# Altium footprint library 电感.PcbLib: 63 footprints (part 2 of 4)
Each footprint in its own frame and in the unit in brackets; x right, y up, seen from the top. Pads: shape width x height; smd on the part's side, far side on the other; paste and mask are expansions set on the pad; w line width, h text height; cw(c..) or ccw(c..) is an arc to the next point about the centre after c.
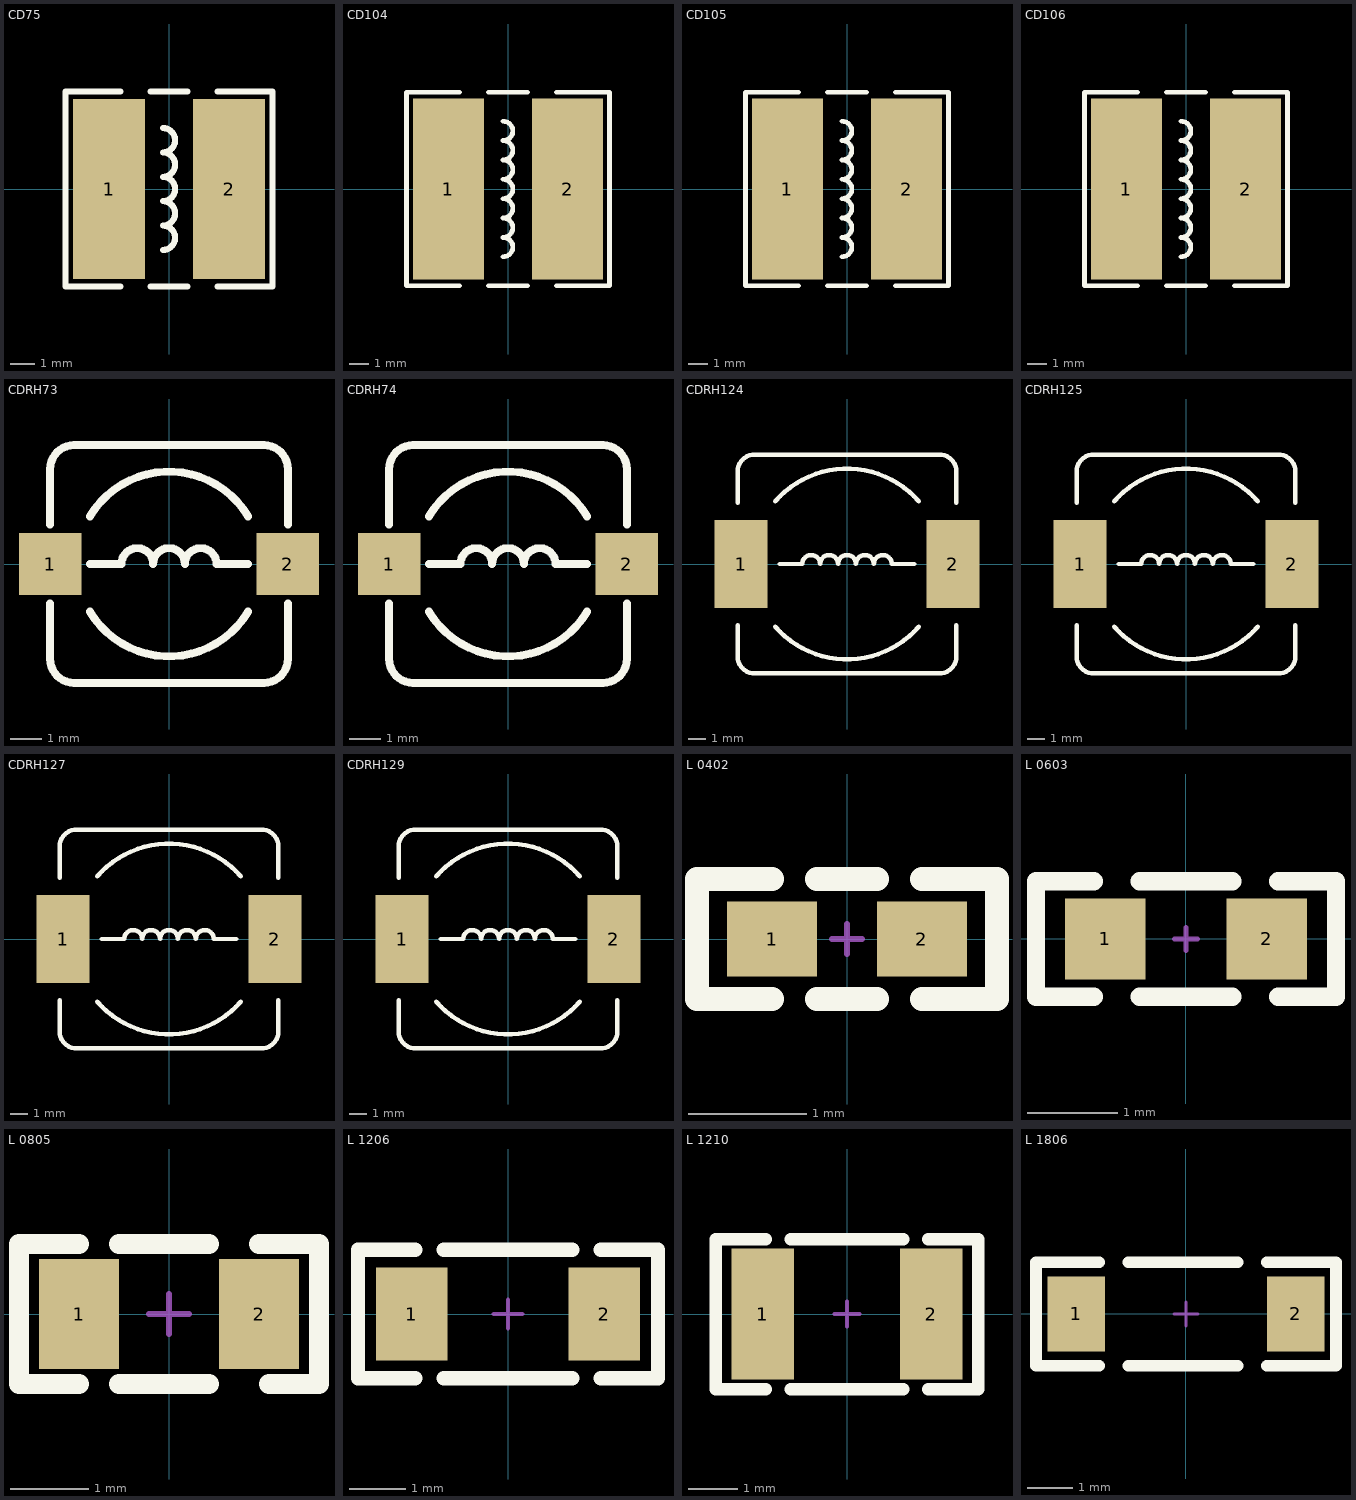
[diagram p1: the footprints below, top view; thin cyan lines are the x and y axes]

## CD75 [mm] "7.8*7*5mm（长宽高）"
pads (2):
  rect 3x7.5 smd: 1(-2.5,0) 2(2.5,0)
Top Overlay:
  lines w0.254: -2.032,-4.064 -4.318,-4.064 -4.318,4.064 -2.032,4.064 ; -0.762,-4.064 0.762,-4.064 ; -0.762,4.064 0.762,4.064 ; -0.254,-2.54 ccw(c-0.254,-2.032) -0.254,-1.524 ccw(c-0.254,-1.016) -0.254,-0.508 ccw(c-0.254,0) -0.254,0.508 ccw(c-0.254,1.016) -0.254,1.524 ccw(c-0.254,2.032) -0.254,2.54 ; 2.032,-4.064 4.318,-4.064 4.318,4.064 2.032,4.064
3D body "CD75.STEP": height 5.15, standoff 0, extent -3.849,-3.5 3.849,3.5

## CD104 [mm] "10*9*4mm（长宽高）"
pads (2):
  rect 3.75x9.5 smd: 1(-3.125,0) 2(3.125,0)
Top Overlay:
  lines w0.254: -2.54,-5.08 -5.334,-5.08 -5.334,5.08 -2.54,5.08 ; -1.016,-5.08 1.016,-5.08 ; -1.016,5.08 1.016,5.08 ; -0.254,-3.556 ccw(c-0.254,-3.048) -0.254,-2.54 ccw(c-0.254,-2.032) -0.254,-1.524 ccw(c-0.254,-1.016) -0.254,-0.508 ccw(c-0.254,0) -0.254,0.508 ccw(c-0.254,1.016) -0.254,1.524 ccw(c-0.254,2.032) -0.254,2.54 ccw(c-0.254,3.048) -0.254,3.556 ; 2.54,-5.08 5.334,-5.08 5.334,5.08 2.54,5.08
3D body "CD104.STEP": height 4.7, standoff 0, extent -4.954,-4.5 4.954,4.5

## CD105 [mm] "10*9*5.4mm（长宽高）"
pads (2):
  rect 3.75x9.5 smd: 1(-3.125,0) 2(3.125,0)
Top Overlay:
  lines w0.254: -2.54,-5.08 -5.334,-5.08 -5.334,5.08 -2.54,5.08 ; -1.016,-5.08 1.016,-5.08 ; -1.016,5.08 1.016,5.08 ; -0.254,-3.556 ccw(c-0.254,-3.048) -0.254,-2.54 ccw(c-0.254,-2.032) -0.254,-1.524 ccw(c-0.254,-1.016) -0.254,-0.508 ccw(c-0.254,0) -0.254,0.508 ccw(c-0.254,1.016) -0.254,1.524 ccw(c-0.254,2.032) -0.254,2.54 ccw(c-0.254,3.048) -0.254,3.556 ; 2.54,-5.08 5.334,-5.08 5.334,5.08 2.54,5.08
3D body "CD105.STEP": height 5.5, standoff 0, extent -4.954,-4.5 4.954,4.5

## CD106 [mm] "10*9*6.5mm（长宽高）"
pads (2):
  rect 3.75x9.5 smd: 1(-3.125,0) 2(3.125,0)
Top Overlay:
  lines w0.254: -2.54,-5.08 -5.334,-5.08 -5.334,5.08 -2.54,5.08 ; -1.016,-5.08 1.016,-5.08 ; -1.016,5.08 1.016,5.08 ; -0.254,-3.556 ccw(c-0.254,-3.048) -0.254,-2.54 ccw(c-0.254,-2.032) -0.254,-1.524 ccw(c-0.254,-1.016) -0.254,-0.508 ccw(c-0.254,0) -0.254,0.508 ccw(c-0.254,1.016) -0.254,1.524 ccw(c-0.254,2.032) -0.254,2.54 ccw(c-0.254,3.048) -0.254,3.556 ; 2.54,-5.08 5.334,-5.08 5.334,5.08 2.54,5.08
3D body "CD106.STEP": height 6.3, standoff 0, extent -4.954,-4.5 4.954,4.5

## CDRH73 [mm] "7.3*7.3*3.4mm（长宽高）"
pads (2):
  rect 2x2 smd: 1(-3.81,0) 2(3.81,0)
Top Overlay:
  lines w0.254: -3.81,-1.27 -3.81,-3.048 ccw(c-3.048,-3.048) -3.048,-3.81 3.048,-3.81 ccw(c3.048,-3.048) 3.81,-3.048 3.81,-1.27 ; -3.81,1.27 -3.81,3.048 cw(c-3.048,3.048) -3.048,3.81 3.048,3.81 cw(c3.048,3.048) 3.81,3.048 3.81,1.27 ; -2.54,-1.524 ccw(c0,0) 2.54,-1.524 ; -2.54,0 -1.524,0 cw(c-1.016,0) -0.508,0 cw(c0,0) 0.508,0 cw(c1.016,0) 1.524,0 2.54,0 ; -2.54,1.524 cw(c0,0) 2.54,1.524
3D body "CDRH73.STEP": height 3.65, standoff 0, extent -3.65,-3.65 3.65,3.65

## CDRH74 [mm] "7.3*7.3*4.5mm（长宽高）"
pads (2):
  rect 2x2 smd: 1(-3.81,0) 2(3.81,0)
Top Overlay:
  lines w0.254: -3.81,-1.27 -3.81,-3.048 ccw(c-3.048,-3.048) -3.048,-3.81 3.048,-3.81 ccw(c3.048,-3.048) 3.81,-3.048 3.81,-1.27 ; -3.81,1.27 -3.81,3.048 cw(c-3.048,3.048) -3.048,3.81 3.048,3.81 cw(c3.048,3.048) 3.81,3.048 3.81,1.27 ; -2.54,-1.524 ccw(c0,0) 2.54,-1.524 ; -2.54,0 -1.524,0 cw(c-1.016,0) -0.508,0 cw(c0,0) 0.508,0 cw(c1.016,0) 1.524,0 2.54,0 ; -2.54,1.524 cw(c0,0) 2.54,1.524
3D body "CDRH74.STEP": height 4.5, standoff 0, extent -3.65,-3.65 3.65,3.65

## CDRH124 [mm] "12*12*4.5mm（长宽高）"
pads (2):
  rect 3x5 smd: 1(-6,0) 2(6,0)
Top Overlay:
  lines w0.254: -6.2,-3.475 -6.2,-5.23 ccw(c-5.23,-5.23) -5.23,-6.2 5.23,-6.2 ccw(c5.23,-5.23) 6.2,-5.23 6.2,-3.475 ; -6.2,3.475 -6.2,5.23 cw(c-5.23,5.23) -5.23,6.2 5.23,6.2 cw(c5.23,5.23) 6.2,5.23 6.2,3.475 ; -4.064,-3.556 ccw(c0,0) 4.064,-3.556 ; -4.064,3.556 cw(c0,0) 4.064,3.556 ; -3.81,0 -2.54,0 cw(c-2.032,0) -1.524,0 cw(c-1.016,0) -0.508,0 cw(c0,0) 0.508,0 cw(c1.016,0) 1.524,0 cw(c2.032,0) 2.54,0 3.81,0
3D body "CDRH124.STEP": height 4.55, standoff 0.05, extent -6,-6 6,6

## CDRH125 [mm] "12*12*5mm（长宽高）"
pads (2):
  rect 3x5 smd: 1(-6,0) 2(6,0)
Top Overlay:
  lines w0.254: -6.2,-3.475 -6.2,-5.23 ccw(c-5.23,-5.23) -5.23,-6.2 5.23,-6.2 ccw(c5.23,-5.23) 6.2,-5.23 6.2,-3.475 ; -6.2,3.475 -6.2,5.23 cw(c-5.23,5.23) -5.23,6.2 5.23,6.2 cw(c5.23,5.23) 6.2,5.23 6.2,3.475 ; -4.064,-3.556 ccw(c0,0) 4.064,-3.556 ; -4.064,3.556 cw(c0,0) 4.064,3.556 ; -3.81,0 -2.54,0 cw(c-2.032,0) -1.524,0 cw(c-1.016,0) -0.508,0 cw(c0,0) 0.508,0 cw(c1.016,0) 1.524,0 cw(c2.032,0) 2.54,0 3.81,0
3D body "CDRH125.STEP": height 5.05, standoff 0.05, extent -6,-6 6,6

## CDRH127 [mm] "12*12*8mm（长宽高）"
pads (2):
  rect 3x5 smd: 1(-6,0) 2(6,0)
Top Overlay:
  lines w0.254: -6.2,-3.475 -6.2,-5.23 ccw(c-5.23,-5.23) -5.23,-6.2 5.23,-6.2 ccw(c5.23,-5.23) 6.2,-5.23 6.2,-3.475 ; -6.2,3.475 -6.2,5.23 cw(c-5.23,5.23) -5.23,6.2 5.23,6.2 cw(c5.23,5.23) 6.2,5.23 6.2,3.475 ; -4.064,-3.556 ccw(c0,0) 4.064,-3.556 ; -4.064,3.556 cw(c0,0) 4.064,3.556 ; -3.81,0 -2.54,0 cw(c-2.032,0) -1.524,0 cw(c-1.016,0) -0.508,0 cw(c0,0) 0.508,0 cw(c1.016,0) 1.524,0 cw(c2.032,0) 2.54,0 3.81,0
3D body "CDRH127.STEP": height 7.8, standoff 0, extent -6,-6 6,6

## CDRH129 [mm] "12*12*9.5mm（长宽高）"
pads (2):
  rect 3x5 smd: 1(-6,0) 2(6,0)
Top Overlay:
  lines w0.254: -6.2,-3.475 -6.2,-5.23 ccw(c-5.23,-5.23) -5.23,-6.2 5.23,-6.2 ccw(c5.23,-5.23) 6.2,-5.23 6.2,-3.475 ; -6.2,3.475 -6.2,5.23 cw(c-5.23,5.23) -5.23,6.2 5.23,6.2 cw(c5.23,5.23) 6.2,5.23 6.2,3.475 ; -4.064,-3.556 ccw(c0,0) 4.064,-3.556 ; -4.064,3.556 cw(c0,0) 4.064,3.556 ; -3.81,0 -2.54,0 cw(c-2.032,0) -1.524,0 cw(c-1.016,0) -0.508,0 cw(c0,0) 0.508,0 cw(c1.016,0) 1.524,0 cw(c2.032,0) 2.54,0 3.81,0
3D body "CDRH129.STEP": height 9.65, standoff 0.05, extent -6,-6 6,6

## L 0402 [mil] "小功率贴片电感"
pads (2):
  rect 30x25 smd: 1(-25,0) 2(25,0)
Top Overlay:
  lines w8: -25,-20 -50,-20 -50,20 -40,20 -25,20 ; -10,-20 10,-20 ; -10,20 10,20 ; 25,-20 50,-20 50,20 25,20
Mechanical 15:
  lines w2: -5,0 5,0 ; 0,-5 0,5
3D body "0402.STEP": height 19.68, standoff -0.11, extent -19.69,-9.84 19.69,9.84

## L 0603 [mil] "小功率贴片电感"
pads (2):
  rect 35x35 smd: 1(-35,0) 2(35,0)
Top Overlay:
  lines w8: -40,-25 -65,-25 -65,25 -40,25 ; -20,-25 20,-25 ; -20,25 20,25 ; 40,-25 65,-25 65,25 40,25
Mechanical 15:
  lines w2: -5,0 5,0 ; 0,-5 0,0 0,5
3D body "0603.STEP": height 31.5, standoff -0.11, extent -31.5,-15.75 31.5,15.75

## L 0805 [mil] "小功率贴片电感"
pads (2):
  rect 40x55 smd: 1(-45,0) 2(45,0)
Top Overlay:
  lines w10: -45,-35 -75,-35 -75,35 -45,35 ; -25,-35 20,-35 ; -25,35 20,35 ; 45,35 75,35 75,-35 50,-35
Mechanical 15:
  lines w3: -10,0 10,0 ; 0,-10 0,10
3D body "0805.STEP": height 35.43, standoff -0.11, extent -39.37,-23.62 39.37,23.62

## L 1206 [mil] "小功率贴片电感"
pads (2):
  rect 50x65 smd: 1(-67.5,0) 2(67.5,0)
Top Overlay:
  lines w10: -65,-45 -105,-45 -105,45 -65,45 ; -45,-45 45,-45 ; -45,45 45,45 ; 65,-45 105,-45 105,45 65,45
Mechanical 15:
  lines w3: -10,0 10,0 ; 0,-10 0,10
3D body "1206.STEP": height 35.43, standoff -0.19, extent -62.99,-31.5 62.99,31.5

## L 1210 [mil] "小功率贴片电感"
pads (2):
  rect 50x105 smd: 1(-67.5,0) 2(67.5,0)
Top Overlay:
  lines w10: -65,-60 -105,-60 -105,60 -65,60 ; -45,-60 45,-60 ; -45,60 45,60 ; 65,-60 105,-60 105,60 65,60
Mechanical 15:
  lines w3: -10,0 10,0 ; 0,-10 0,10
3D body "1210.STEP": height 51.18, standoff -0.19, extent -62.99,-49.21 62.99,49.21

## L 1806 [mil] "小功率贴片电感"
pads (2):
  rect 50x65 smd: 1(-95,0) 2(95,0)
Top Overlay:
  lines w10: -75,-45 -130,-45 -130,45 -75,45 ; -50,-45 45,-45 ; -50,45 45,45 ; 70,-45 130,-45 130,-40 130,-15 130,45 70,45
Mechanical 15:
  lines w3: -10,0 10,0 ; 0,-10 0,10
3D body "1806.STEP": height 62.99, standoff -0.19, extent -88.58,-31.5 88.58,31.5